# Altium schematic symbol library MCR1101-50-3.SchLib: 1 symbol
Pins are listed as number, name and electrical type; pins without a type are passive.

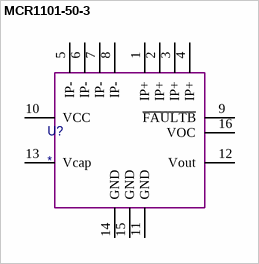
[diagram p0: symbol MCR1101-50-3]

## MCR1101-50-3
designator U?
Board Mount Current Sensors High Accuracy +/-50A Current Sensor, 3.3V, Ratiometric, 1.5MHz 3dB BW, OCD, Galvanic Isolation. UL/IEC/EN60950-1 and UL1577 certified. SOIC-16
pins: 1 IP+, 2 IP+, 3 IP+, 4 IP+, 5 IP-, 6 IP-, 7 IP-, 8 IP-, 9 ~{FAULTB}, 10 VCC, 11 GND, 12 Vout, 13 Vcap, 14 GND, 15 GND, 16 VOC